# EAGLE library part TPS63020 (library TI Power and Battery)
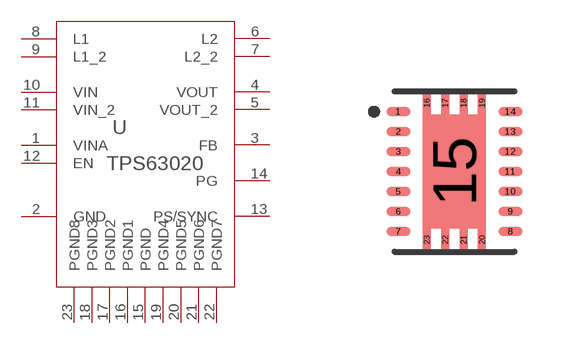
[diagram p2: symbol with the pads of QFN14-3X4MM; footprint QFN14-3X4MM]

Designator prefix U

## TPS63020  [QFN14-3X4MM]
1  VINA
2  GND
3  FB
4  VOUT
5  VOUT_2
6  L2
7  L2_2
8  L1
9  L1_2
10  VIN
11  VIN_2
12  EN
13  PS/SYNC
14  PG
15  PGND
16  PGND1
17  PGND2
18  PGND3
19  PGND4
20  PGND5
21  PGND6
22  PGND7
23  PGND8

## Footprint QFN14-3X4MM (pad centres in mm)
smd 0.6 x 0.24: 1 -1.4,1.5; 2 -1.4,1; 3 -1.4,0.5; 4 -1.4,0; 5 -1.4,-0.5; 6 -1.4,-1; 7 -1.4,-1.5; 8 1.4,-1.5; 9 1.4,-1; 10 1.4,-0.5; 11 1.4,0; 12 1.4,0.5; 13 1.4,1; 14 1.4,1.5
smd 1.58 x 2.85: 15 0,0
smd 0.2 x 0.575: 16 -0.69,1.712; 17 -0.23,1.712; 18 0.23,1.712; 19 0.69,1.712; 20 0.69,-1.712; 21 0.23,-1.712; 22 -0.23,-1.712; 23 -0.69,-1.712